# Altium schematic symbol library IPP60R190P6.SchLib: 1 symbol
Pins are listed as number, name and electrical type; pins without a type are passive.

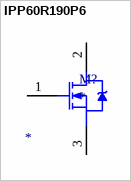
[diagram p0: symbol IPP60R190P6]

## IPP60R190P6
designator M?
MfrPartNo: *
pins: 1 G, 2 D, 3 S